# Altium schematic symbol library USB_MINI_VERT_TH.SchLib: 1 symbol
Pins are listed as number, name and electrical type; pins without a type are passive.

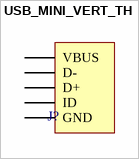
[diagram p0: symbol USB_MINI_VERT_TH]

## USB_MINI_VERT_TH
designator J?, comment CONN RCPT USB2.0 MINI B VERT  (value not drawn)
Conn USB RCP 5 POS 0.8mm Solder ST Thru-Hole 5 Terminal 1 Port Tray; Manufacturer: TE Connectivity AMP; Manufacturer Part Number: 1734753-1; Number of Terminals/Pins: 5; Gender: Receptacle; Connector Type: USB,Receptacle; Number of Ports: 1; Max Voltage Rating (AC): 30V; Current Rating: 1A; Mating Cycles: 5000; Shielding: Shielded; RoHS: Yes; Category: Audio / Video Connectors; Stock 1: 5230; Pricing 1: 1=1.60000, 10=1.44800, 25=1.35960, 40=1.30050, 150=1.24133, 300=1.12313, 450=1.03447, 1050=0.88669, 2400=0.82757 (USD); Mount: Through Hole,Vertical; Contact Material: Bronze; Contact Plating: Gold; Housing Color: Black; Housing Material: Thermoplastic; Insulation Color: Black; Min Operating Temperature: -20°C; Max Operating Temperature: 85°C; Packaging: Tray; Package Quantity: 3000; Number of Contacts: 5; Number of Positions: 5; Termination: Solder; Orientation: Straight; USB Standard: USB 2.0; Features: Shielded; Series: -; Length: 7.7mm; Pitch: 0.8mm; Depth: 3.9mm; Radiation Hardening: No; REACH SVHC: Unknown; Lead Free: Lead Free; ELV: Compliant; Flammability Rating: UL94 V-0; RoHS Compliant: Yes; ComponentLink1URL: https://datasheet.ciiva.com/14941/eng-cd-1734753-a1-14941629.pdf?src-supplier=Digi-Key; ComponentLink1Description: https://datasheet.ciiva.com/14941/eng-cd-1734753-a1-14941629.pdf?src-supplier=Digi-Key; ComponentLink2URL: https://datasheet.ciiva.com/3094/eng-ds-1-1773453-6-0908-3094487.pdf?src-supplier=Avnet; ComponentLink2Description: https://datasheet.ciiva.com/3094/eng-ds-1-1773453-6-0908-3094487.pdf?src-supplier=Avnet; ComponentLink3URL: https://datasheet.ciiva.com/24339/ddecontrolleractionsrchrtrvdocnm117734536doctypedsdoclan-24339101.pdf?src-supplier=Onlinecomponents.com; ComponentLink3Description: https://datasheet.ciiva.com/24339/ddecontrolleractionsrchrtrvdocnm117734536doctypedsdoclan-24339101.pdf?src-supplier=Onlinecomponents.com; ComponentLink4URL: https://datasheet.ciiva.com/16668/eng-ds-1-1773453-6-0908-16668539.pdf?src-supplier=Avnet+Europe; ComponentLink4Description: https://datasheet.ciiva.com/16668/eng-ds-1-1773453-6-0908-16668539.pdf?src-supplier=Avnet+Europe; Supplier 1: Digi-Key; Supplier Part Number 1: A107790-ND
footprint USB_MINI_VERT_TH (CONN RCPT USB2.0 MINI B VERT)
pins: 1 VBUS, 2 D-, 3 D+, 4 ID, 5 GND